# EAGLE library part 206-8 (library 206-8)
DIP Switches / SIP Switches SPST 8 switch sections Source: Datasheet <https://www.ctscorp.com/wp-content/uploads/206-208.pdf>
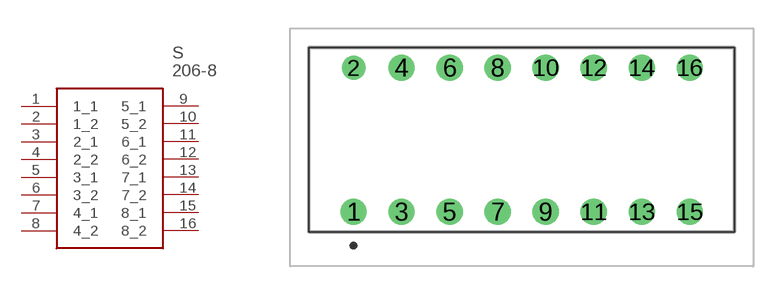
[diagram p0: symbol with the pads of 2068; footprint 2068]

Designator prefix S

## 206-8 (Description: DIP Switches / SIP Switches SPST 8 switch sections; Height: 8mm; Manufacturer_Name: CTS; Manufacturer_Part_Number: 206-8; Mouser_Part_Number: 774-2068; Mouser_Price-Stock: https://www.mouser.com/Search/Refine.aspx?Keyword=774-2068; RS_Part_Number: 1774271; RS_Price-Stock: https://uk.rs-online.com/web/p/products/1774271)  [2068]
1  1_1
2  1_2
3  2_1
4  2_2
5  3_1
6  3_2
7  4_1
8  4_2
9  5_1
10  5_2
11  6_1
12  6_2
13  7_1
14  7_2
15  8_1
16  8_2

## Footprint 2068 (pad centres in mm)
206-8
drill 0.85 pad 1.381: 1 -8.89,-3.405; 3 -6.35,-3.405; 4 -6.35,4.215; 5 -3.81,-3.405; 6 -3.81,4.215; 7 -1.27,-3.405; 8 -1.27,4.215; 9 1.27,-3.405; 10 1.27,4.215; 11 3.81,-3.405; 12 3.81,4.215; 13 6.35,-3.405; 14 6.35,4.215; 15 8.89,-3.405; 16 8.89,4.215
drill 0.75 pad 1.2: 2 -8.89,4.215